# EAGLE library part XCV300_BG352 (library xilinx-xcv)
xcv300_bg352 edit this description Auto generated by make-symbol-device-package-bsdl.ulp Rev. 26 Source: xcv300_bg352.bsd
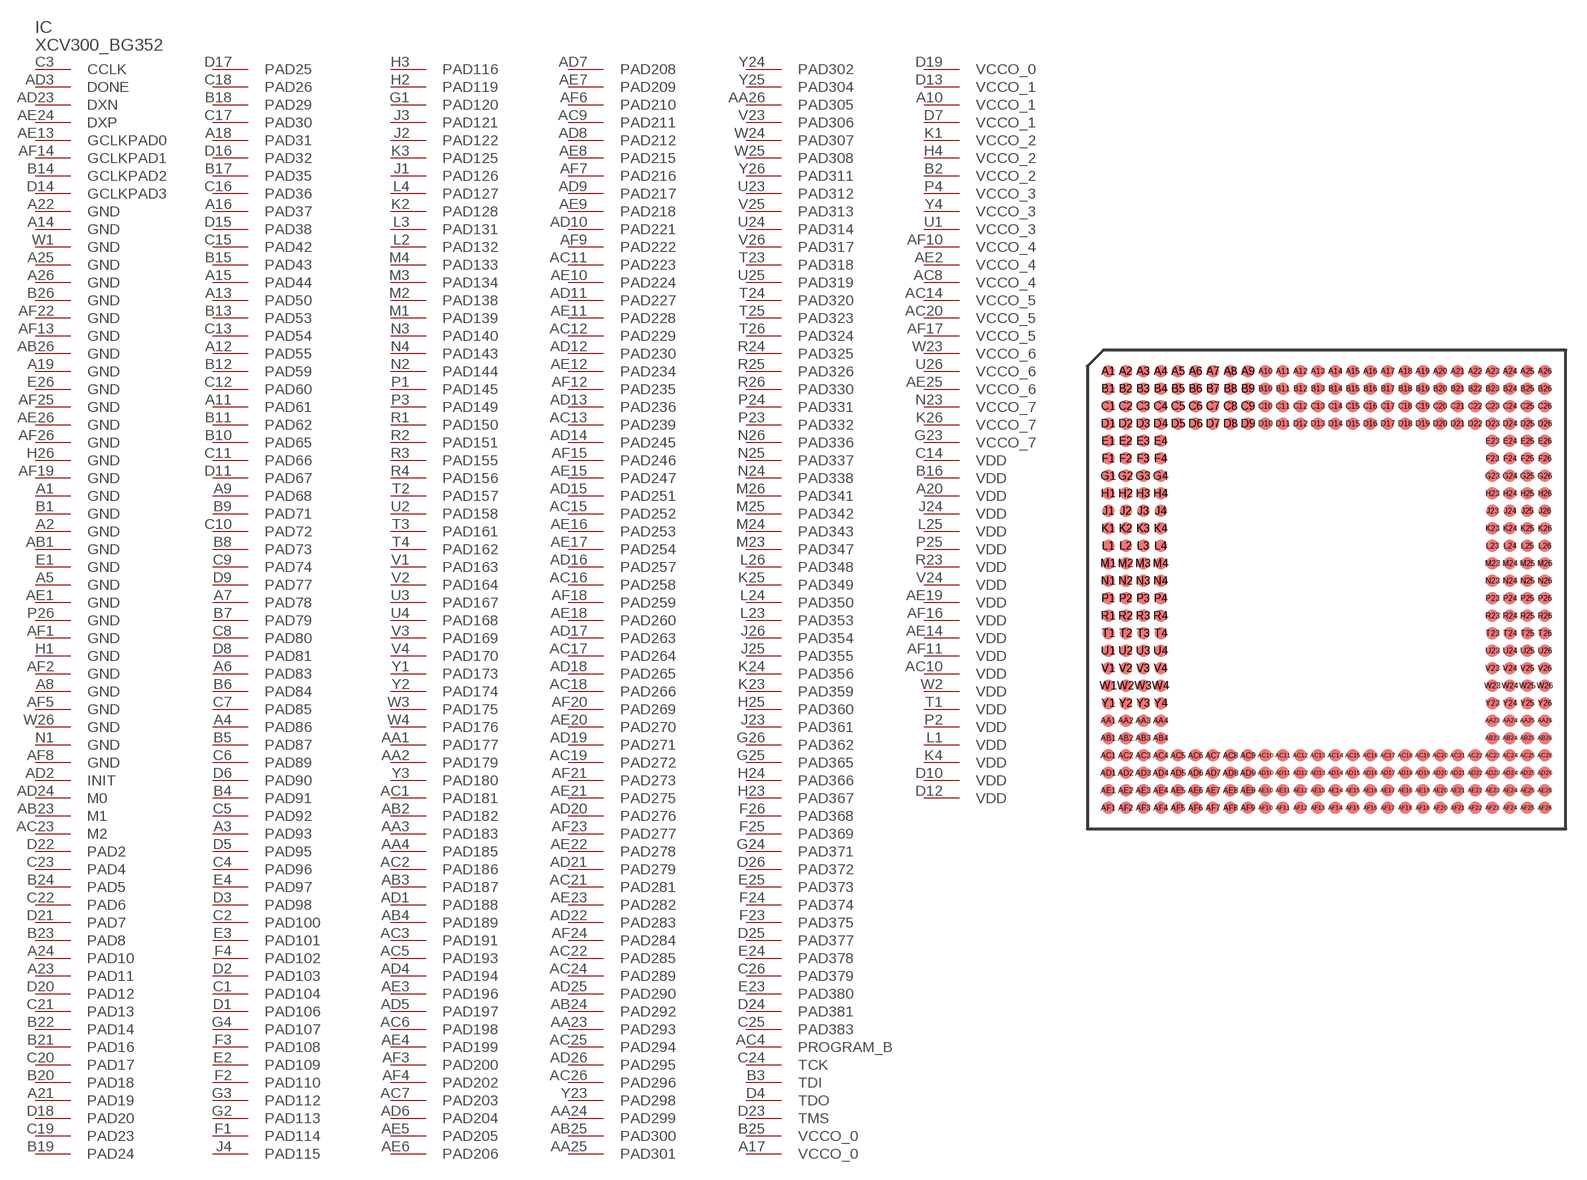
[diagram p78: symbol with the pads of BG352; footprint BG352]

Designator prefix IC

## XCV300_BG352  [BG352]
A1  GND  pwr
A2  GND  pwr
A3  PAD93
A4  PAD86
A5  GND  pwr
A6  PAD83
A7  PAD78
A8  GND  pwr
A9  PAD68
A10  VCCO_1  pwr
A11  PAD61
A12  PAD55
A13  PAD50
A14  GND  pwr
A15  PAD44
A16  PAD37
A17  VCCO_0  pwr
A18  PAD31
A19  GND  pwr
A20  VDD  pwr
A21  PAD19
A22  GND  pwr
A23  PAD11
A24  PAD10
A25  GND  pwr
A26  GND  pwr
AA1  PAD177
AA2  PAD179
AA3  PAD183
AA4  PAD185
AA23  PAD293
AA24  PAD299
AA25  PAD301
AA26  PAD305
AB1  GND  pwr
AB2  PAD182
AB3  PAD187
AB4  PAD189
AB23  M1  in
AB24  PAD292
AB25  PAD300
AB26  GND  pwr
AC1  PAD181
AC2  PAD186
AC3  PAD191
AC4  PROGRAM_B  in
AC5  PAD193
AC6  PAD198
AC7  PAD203
AC8  VCCO_4  pwr
AC9  PAD211
AC10  VDD  pwr
AC11  PAD223
AC12  PAD229
AC13  PAD239
AC14  VCCO_5  pwr
AC15  PAD252
AC16  PAD258
AC17  PAD264
AC18  PAD266
AC19  PAD272
AC20  VCCO_5  pwr
AC21  PAD281
AC22  PAD285
AC23  M2  in
AC24  PAD289
AC25  PAD294
AC26  PAD296
AD1  PAD188
AD2  INIT
AD3  DONE
AD4  PAD194
AD5  PAD197
AD6  PAD204
AD7  PAD208
AD8  PAD212
AD9  PAD217
AD10  PAD221
AD11  PAD227
AD12  PAD230
AD13  PAD236
AD14  PAD245
AD15  PAD251
AD16  PAD257
AD17  PAD263
AD18  PAD265
AD19  PAD271
AD20  PAD276
AD21  PAD279
AD22  PAD283
AD23  DXN  pas
AD24  M0  in
AD25  PAD290
AD26  PAD295
AE1  GND  pwr
AE2  VCCO_4  pwr
AE3  PAD196
AE4  PAD199
AE5  PAD205
AE6  PAD206
AE7  PAD209
AE8  PAD215
AE9  PAD218
AE10  PAD224
AE11  PAD228
AE12  PAD234
AE13  GCLKPAD0  in
AE14  VDD  pwr
AE15  PAD247
AE16  PAD253
AE17  PAD254
AE18  PAD260
AE19  VDD  pwr
AE20  PAD270
AE21  PAD275
AE22  PAD278
AE23  PAD282
AE24  DXP  pas
AE25  VCCO_6  pwr
AE26  GND  pwr
AF1  GND  pwr
AF2  GND  pwr
AF3  PAD200
AF4  PAD202
AF5  GND  pwr
AF6  PAD210
AF7  PAD216
AF8  GND  pwr
AF9  PAD222
AF10  VCCO_4  pwr
AF11  VDD  pwr
AF12  PAD235
AF13  GND  pwr
AF14  GCLKPAD1  in
AF15  PAD246
AF16  VDD  pwr
AF17  VCCO_5  pwr
AF18  PAD259
AF19  GND  pwr
AF20  PAD269
AF21  PAD273
AF22  GND  pwr
AF23  PAD277
AF24  PAD284
AF25  GND  pwr
AF26  GND  pwr
B1  GND  pwr
B2  VCCO_2  pwr
B3  TDI  in
B4  PAD91
B5  PAD87
B6  PAD84
B7  PAD79
B8  PAD73
B9  PAD71
B10  PAD65
B11  PAD62
B12  PAD59
B13  PAD53
B14  GCLKPAD2  in
B15  PAD43
B16  VDD  pwr
B17  PAD35
B18  PAD29
B19  PAD24
B20  PAD18
B21  PAD16
B22  PAD14
B23  PAD8
B24  PAD5
B25  VCCO_0  pwr
B26  GND  pwr
C1  PAD104
C2  PAD100
C3  CCLK
C4  PAD96
C5  PAD92
C6  PAD89
C7  PAD85
C8  PAD80
C9  PAD74
C10  PAD72
C11  PAD66
C12  PAD60
C13  PAD54
C14  VDD  pwr
C15  PAD42
C16  PAD36
C17  PAD30
C18  PAD26
C19  PAD23
C20  PAD17
C21  PAD13
C22  PAD6
C23  PAD4
C24  TCK  in
C25  PAD383
C26  PAD379
D1  PAD106
D2  PAD103
D3  PAD98
D4  TDO  out
D5  PAD95
D6  PAD90
D7  VCCO_1  pwr
D8  PAD81
D9  PAD77
D10  VDD  pwr
D11  PAD67
D12  VDD  pwr
D13  VCCO_1  pwr
D14  GCLKPAD3  in
D15  PAD38
D16  PAD32
D17  PAD25
D18  PAD20
D19  VCCO_0  pwr
D20  PAD12
D21  PAD7
D22  PAD2
D23  TMS  in
D24  PAD381
D25  PAD377
D26  PAD372
E1  GND  pwr
E2  PAD109
E3  PAD101
E4  PAD97
E23  PAD380
E24  PAD378
E25  PAD373
E26  GND  pwr
F1  PAD114
F2  PAD110
F3  PAD108
F4  PAD102
F23  PAD375
F24  PAD374
F25  PAD369
F26  PAD368
G1  PAD120
G2  PAD113
G3  PAD112
G4  PAD107
G23  VCCO_7  pwr
G24  PAD371
G25  PAD365
G26  PAD362
H1  GND  pwr
H2  PAD119
H3  PAD116
H4  VCCO_2  pwr
H23  PAD367
H24  PAD366
H25  PAD360
H26  GND  pwr
J1  PAD126
J2  PAD122
J3  PAD121
J4  PAD115
J23  PAD361
J24  VDD  pwr
J25  PAD355
J26  PAD354
K1  VCCO_2  pwr
K2  PAD128
K3  PAD125
K4  VDD  pwr
K23  PAD359
K24  PAD356
K25  PAD349
K26  VCCO_7  pwr
L1  VDD  pwr
L2  PAD132
L3  PAD131
L4  PAD127
L23  PAD353
L24  PAD350
L25  VDD  pwr
L26  PAD348
M1  PAD139
M2  PAD138
M3  PAD134
M4  PAD133
M23  PAD347
M24  PAD343
M25  PAD342
M26  PAD341
N1  GND  pwr
N2  PAD144
N3  PAD140
N4  PAD143
N23  VCCO_7  pwr
N24  PAD338
N25  PAD337
N26  PAD336
P1  PAD145
P2  VDD  pwr
P3  PAD149
P4  VCCO_3  pwr
P23  PAD332
P24  PAD331
P25  VDD  pwr
P26  GND  pwr
R1  PAD150
R2  PAD151
R3  PAD155
R4  PAD156
R23  VDD  pwr
R24  PAD325
R25  PAD326
R26  PAD330
T1  VDD  pwr
T2  PAD157
T3  PAD161
T4  PAD162
T23  PAD318
T24  PAD320
T25  PAD323
T26  PAD324
U1  VCCO_3  pwr
U2  PAD158
U3  PAD167
U4  PAD168
U23  PAD312
U24  PAD314
U25  PAD319
U26  VCCO_6  pwr
V1  PAD163
V2  PAD164
V3  PAD169
V4  PAD170
V23  PAD306
V24  VDD  pwr
V25  PAD313
V26  PAD317
W1  GND  pwr
W2  VDD  pwr
W3  PAD175
W4  PAD176
W23  VCCO_6  pwr
W24  PAD307
W25  PAD308
W26  GND  pwr
Y1  PAD173
Y2  PAD174
Y3  PAD180
Y4  VCCO_3  pwr
Y23  PAD298
Y24  PAD302
Y25  PAD304
Y26  PAD311

## Footprint BG352 (pad centres in mm)
xcv100e_bg352 edit this description Auto generated by make-symbol-device-package-bsdl.ulp Rev. 26 Source: xcv100e_bg352.bsd
smd 0.9 x 0.9: A1 -15.875,15.875; A2 -14.605,15.875; A3 -13.335,15.875; A4 -12.065,15.875; A5 -10.795,15.875; A6 -9.525,15.875; A7 -8.255,15.875; A8 -6.985,15.875; A9 -5.715,15.875; A10 -4.445,15.875; A11 -3.175,15.875; A12 -1.905,15.875; A13 -0.635,15.875; A14 0.635,15.875; A15 1.905,15.875; A16 3.175,15.875; A17 4.445,15.875; A18 5.715,15.875; A19 6.985,15.875; A20 8.255,15.875; A21 9.525,15.875; A22 10.795,15.875; A23 12.065,15.875; A24 13.335,15.875; A25 14.605,15.875; A26 15.875,15.875; AA1 -15.875,-9.525; AA2 -14.605,-9.525; AA3 -13.335,-9.525; AA4 -12.065,-9.525; AA23 12.065,-9.525; AA24 13.335,-9.525; AA25 14.605,-9.525; AA26 15.875,-9.525; AB1 -15.875,-10.795; AB2 -14.605,-10.795; AB3 -13.335,-10.795; AB4 -12.065,-10.795; AB23 12.065,-10.795; AB24 13.335,-10.795; AB25 14.605,-10.795; AB26 15.875,-10.795; AC1 -15.875,-12.065; AC2 -14.605,-12.065; AC3 -13.335,-12.065; AC4 -12.065,-12.065; AC5 -10.795,-12.065; AC6 -9.525,-12.065; AC7 -8.255,-12.065; AC8 -6.985,-12.065; AC9 -5.715,-12.065; AC10 -4.445,-12.065; AC11 -3.175,-12.065; AC12 -1.905,-12.065; AC13 -0.635,-12.065; AC14 0.635,-12.065; AC15 1.905,-12.065; AC16 3.175,-12.065; AC17 4.445,-12.065; AC18 5.715,-12.065; AC19 6.985,-12.065; AC20 8.255,-12.065; AC21 9.525,-12.065; AC22 10.795,-12.065; AC23 12.065,-12.065; AC24 13.335,-12.065; AC25 14.605,-12.065; AC26 15.875,-12.065; AD1 -15.875,-13.335; AD2 -14.605,-13.335; AD3 -13.335,-13.335; AD4 -12.065,-13.335; AD5 -10.795,-13.335; AD6 -9.525,-13.335; AD7 -8.255,-13.335; AD8 -6.985,-13.335; AD9 -5.715,-13.335; AD10 -4.445,-13.335; AD11 -3.175,-13.335; AD12 -1.905,-13.335; AD13 -0.635,-13.335; AD14 0.635,-13.335; AD15 1.905,-13.335; AD16 3.175,-13.335; AD17 4.445,-13.335; AD18 5.715,-13.335; AD19 6.985,-13.335; AD20 8.255,-13.335; AD21 9.525,-13.335; AD22 10.795,-13.335; AD23 12.065,-13.335; AD24 13.335,-13.335; AD25 14.605,-13.335; AD26 15.875,-13.335; AE1 -15.875,-14.605; AE2 -14.605,-14.605; AE3 -13.335,-14.605; AE4 -12.065,-14.605; AE5 -10.795,-14.605; AE6 -9.525,-14.605; AE7 -8.255,-14.605; AE8 -6.985,-14.605; AE9 -5.715,-14.605; AE10 -4.445,-14.605; AE11 -3.175,-14.605; AE12 -1.905,-14.605; AE13 -0.635,-14.605; AE14 0.635,-14.605; AE15 1.905,-14.605; AE16 3.175,-14.605; AE17 4.445,-14.605; AE18 5.715,-14.605; AE19 6.985,-14.605; AE20 8.255,-14.605; AE21 9.525,-14.605; AE22 10.795,-14.605; AE23 12.065,-14.605; AE24 13.335,-14.605; AE25 14.605,-14.605; AE26 15.875,-14.605; AF1 -15.875,-15.875; AF2 -14.605,-15.875; AF3 -13.335,-15.875; AF4 -12.065,-15.875; AF5 -10.795,-15.875; AF6 -9.525,-15.875; AF7 -8.255,-15.875; AF8 -6.985,-15.875; AF9 -5.715,-15.875; AF10 -4.445,-15.875; AF11 -3.175,-15.875; AF12 -1.905,-15.875; AF13 -0.635,-15.875; AF14 0.635,-15.875; AF15 1.905,-15.875; AF16 3.175,-15.875; AF17 4.445,-15.875; AF18 5.715,-15.875; AF19 6.985,-15.875; AF20 8.255,-15.875; AF21 9.525,-15.875; AF22 10.795,-15.875; AF23 12.065,-15.875; AF24 13.335,-15.875; AF25 14.605,-15.875; AF26 15.875,-15.875; B1 -15.875,14.605; B2 -14.605,14.605; B3 -13.335,14.605; B4 -12.065,14.605; B5 -10.795,14.605; B6 -9.525,14.605; B7 -8.255,14.605; B8 -6.985,14.605; B9 -5.715,14.605; B10 -4.445,14.605; B11 -3.175,14.605; B12 -1.905,14.605; B13 -0.635,14.605; B14 0.635,14.605; B15 1.905,14.605; B16 3.175,14.605; B17 4.445,14.605; B18 5.715,14.605; B19 6.985,14.605; B20 8.255,14.605; B21 9.525,14.605; B22 10.795,14.605; B23 12.065,14.605; B24 13.335,14.605; B25 14.605,14.605; B26 15.875,14.605; C1 -15.875,13.335; C2 -14.605,13.335; C3 -13.335,13.335; C4 -12.065,13.335; C5 -10.795,13.335; C6 -9.525,13.335; C7 -8.255,13.335; C8 -6.985,13.335; C9 -5.715,13.335; C10 -4.445,13.335; C11 -3.175,13.335; C12 -1.905,13.335; C13 -0.635,13.335; C14 0.635,13.335; C15 1.905,13.335; C16 3.175,13.335; C17 4.445,13.335; C18 5.715,13.335; C19 6.985,13.335; C20 8.255,13.335; C21 9.525,13.335; C22 10.795,13.335; C23 12.065,13.335; C24 13.335,13.335; C25 14.605,13.335; C26 15.875,13.335; D1 -15.875,12.065; D2 -14.605,12.065; D3 -13.335,12.065; D4 -12.065,12.065; D5 -10.795,12.065; D6 -9.525,12.065; D7 -8.255,12.065; D8 -6.985,12.065; D9 -5.715,12.065; D10 -4.445,12.065; D11 -3.175,12.065; D12 -1.905,12.065; D13 -0.635,12.065; D14 0.635,12.065; D15 1.905,12.065; D16 3.175,12.065; D17 4.445,12.065; D18 5.715,12.065; D19 6.985,12.065; D20 8.255,12.065; D21 9.525,12.065; D22 10.795,12.065; D23 12.065,12.065; D24 13.335,12.065; D25 14.605,12.065; D26 15.875,12.065; E1 -15.875,10.795; E2 -14.605,10.795; E3 -13.335,10.795; E4 -12.065,10.795; E23 12.065,10.795; E24 13.335,10.795; E25 14.605,10.795; E26 15.875,10.795; F1 -15.875,9.525; F2 -14.605,9.525; F3 -13.335,9.525; F4 -12.065,9.525; F23 12.065,9.525; F24 13.335,9.525; F25 14.605,9.525; F26 15.875,9.525; G1 -15.875,8.255; G2 -14.605,8.255; G3 -13.335,8.255; G4 -12.065,8.255; G23 12.065,8.255; G24 13.335,8.255; G25 14.605,8.255; G26 15.875,8.255; H1 -15.875,6.985; H2 -14.605,6.985; H3 -13.335,6.985; H4 -12.065,6.985; H23 12.065,6.985; H24 13.335,6.985; H25 14.605,6.985; H26 15.875,6.985; J1 -15.875,5.715; J2 -14.605,5.715; J3 -13.335,5.715; J4 -12.065,5.715; J23 12.065,5.715; J24 13.335,5.715; J25 14.605,5.715; J26 15.875,5.715; K1 -15.875,4.445; K2 -14.605,4.445; K3 -13.335,4.445; K4 -12.065,4.445; K23 12.065,4.445; K24 13.335,4.445; K25 14.605,4.445; K26 15.875,4.445; L1 -15.875,3.175; L2 -14.605,3.175; L3 -13.335,3.175; L4 -12.065,3.175; L23 12.065,3.175; L24 13.335,3.175; L25 14.605,3.175; L26 15.875,3.175; M1 -15.875,1.905; M2 -14.605,1.905; M3 -13.335,1.905; M4 -12.065,1.905; M23 12.065,1.905; M24 13.335,1.905; M25 14.605,1.905; M26 15.875,1.905; N1 -15.875,0.635; N2 -14.605,0.635; N3 -13.335,0.635; N4 -12.065,0.635; N23 12.065,0.635; N24 13.335,0.635; N25 14.605,0.635; N26 15.875,0.635; P1 -15.875,-0.635; P2 -14.605,-0.635; P3 -13.335,-0.635; P4 -12.065,-0.635; P23 12.065,-0.635; P24 13.335,-0.635; P25 14.605,-0.635; P26 15.875,-0.635; R1 -15.875,-1.905; R2 -14.605,-1.905; R3 -13.335,-1.905; R4 -12.065,-1.905; R23 12.065,-1.905; R24 13.335,-1.905; R25 14.605,-1.905; R26 15.875,-1.905; T1 -15.875,-3.175; T2 -14.605,-3.175; T3 -13.335,-3.175; T4 -12.065,-3.175; T23 12.065,-3.175; T24 13.335,-3.175; T25 14.605,-3.175; T26 15.875,-3.175; U1 -15.875,-4.445; U2 -14.605,-4.445; U3 -13.335,-4.445; U4 -12.065,-4.445; U23 12.065,-4.445; U24 13.335,-4.445; U25 14.605,-4.445; U26 15.875,-4.445; V1 -15.875,-5.715; V2 -14.605,-5.715; V3 -13.335,-5.715; V4 -12.065,-5.715; V23 12.065,-5.715; V24 13.335,-5.715; V25 14.605,-5.715; V26 15.875,-5.715; W1 -15.875,-6.985; W2 -14.605,-6.985; W3 -13.335,-6.985; W4 -12.065,-6.985; W23 12.065,-6.985; W24 13.335,-6.985; W25 14.605,-6.985; W26 15.875,-6.985; Y1 -15.875,-8.255; Y2 -14.605,-8.255; Y3 -13.335,-8.255; Y4 -12.065,-8.255; Y23 12.065,-8.255; Y24 13.335,-8.255; Y25 14.605,-8.255; Y26 15.875,-8.255